# EAGLE library part LIS (library 1_spektrak)
InGaAs linear image sensor. G11620 serie, 512 pixels, 0.95-1.7 um (near infrared)
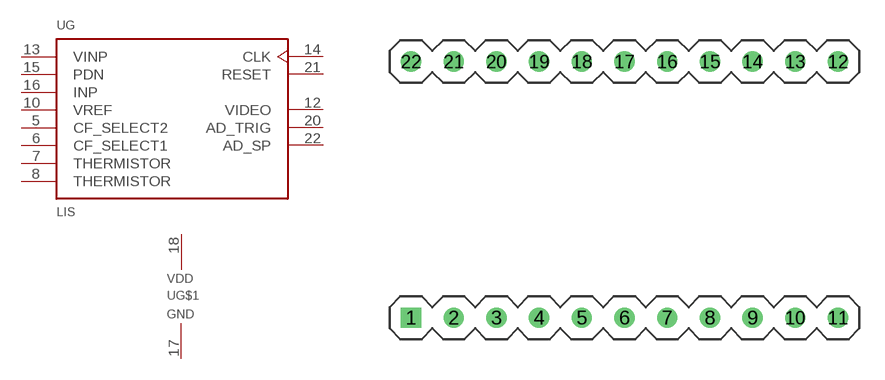
[diagram p0: symbol with the pads of LIS; footprint LIS]

Designator prefix U; gates G=LIS G$1=PWRGND

## LIS  [LIS]
5  G:CF_SELECT2  in
6  G:CF_SELECT1  in
7  G:THERMISTOR  out
8  G:THERMISTOR  out
10  G:VREF  in
12  G:VIDEO  out
13  G:VINP  in
14  G:CLK  in
15  G:PDN  in
16  G:INP  in
17  G$1:GND  pwr
18  G$1:VDD  pwr
20  G:AD_TRIG  out
21  G:RESET  in
22  G:AD_SP  out

## Footprint LIS (pad centres in mm)
drill 0.7 square: 1 -12.7,-7.62
drill 0.7: 2 -10.16,-7.62; 3 -7.62,-7.62; 4 -5.08,-7.62; 5 -2.54,-7.62; 6 0,-7.62; 7 2.54,-7.62; 8 5.08,-7.62; 9 7.62,-7.62; 10 10.16,-7.62; 11 12.7,-7.62; 12 12.7,7.62; 13 10.16,7.62; 14 7.62,7.62; 15 5.08,7.62; 16 2.54,7.62; 17 0,7.62; 18 -2.54,7.62; 19 -5.08,7.62; 20 -7.62,7.62; 21 -10.16,7.62; 22 -12.7,7.62